# EAGLE library part TMS9914A (library ieee488)
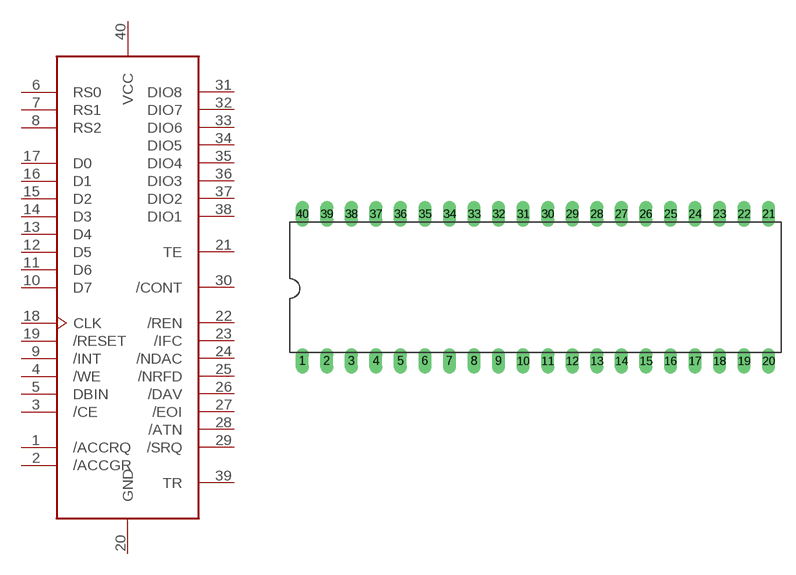
[diagram p0: symbol with the pads of DIL40; footprint DIL40]

Designator prefix -

## TMS9914ANL  [DIL40]
1  /ACCRQ  out
2  /ACCGR  in
3  /CE  in
4  /WE  in
5  DBIN  in
6  RS0  in
7  RS1  in
8  RS2  in
9  /INT  out
10  D7
11  D6
12  D5
13  D4
14  D3
15  D2
16  D1
17  D0
18  CLK  in
19  /RESET  in
20  GND  pwr
21  TE  out
22  /REN
23  /IFC
24  /NDAC
25  /NRFD
26  /DAV
27  /EOI
28  /ATN
29  /SRQ
30  /CONT
31  DIO8
32  DIO7
33  DIO6
34  DIO5
35  DIO4
36  DIO3
37  DIO2
38  DIO1
39  TR
40  VCC  pwr

## Footprint DIL40 (pad centres in mm)
Dual In Line Package
drill 0.813 long: 1 -24.13,-7.62; 2 -21.59,-7.62; 3 -19.05,-7.62; 4 -16.51,-7.62; 5 -13.97,-7.62; 6 -11.43,-7.62; 7 -8.89,-7.62; 8 -6.35,-7.62; 9 -3.81,-7.62; 10 -1.27,-7.62; 11 1.27,-7.62; 12 3.81,-7.62; 13 6.35,-7.62; 14 8.89,-7.62; 15 11.43,-7.62; 16 13.97,-7.62; 17 16.51,-7.62; 18 19.05,-7.62; 19 21.59,-7.62; 20 24.13,-7.62; 21 24.13,7.62; 22 21.59,7.62; 23 19.05,7.62; 24 16.51,7.62; 25 13.97,7.62; 26 11.43,7.62; 27 8.89,7.62; 28 6.35,7.62; 29 3.81,7.62; 30 1.27,7.62; 31 -1.27,7.62; 32 -3.81,7.62; 33 -6.35,7.62; 34 -8.89,7.62; 35 -11.43,7.62; 36 -13.97,7.62; 37 -16.51,7.62; 38 -19.05,7.62; 39 -21.59,7.62; 40 -24.13,7.62